# Altium schematic symbol library ANT,2.45GHz,IFA,PCB.Schlib: 1 symbol
Pins are listed as number, name and electrical type; pins without a type are passive.

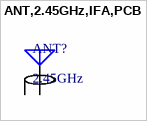
[diagram p0: symbol ANT,2.45GHz,IFA,PCB]

## ANT,2.45GHz,IFA,PCB
designator ANT?, comment 2.45GHz
2.4-GHz Inverted F Antenna
pins: 1, 2